# EAGLE library part LTC3300-1 (library balancers)
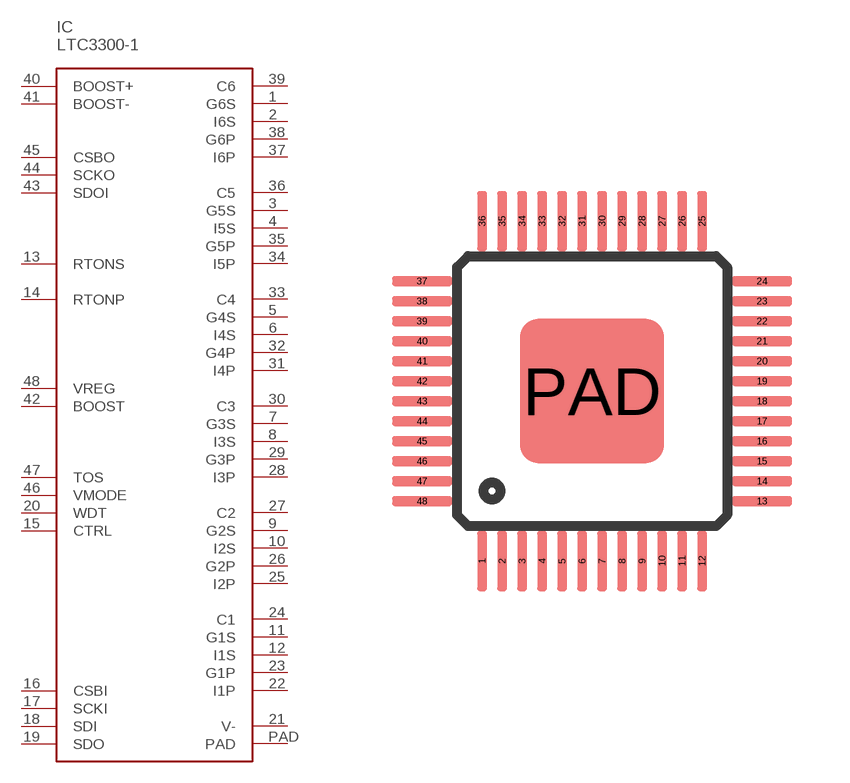
[diagram p0: symbol with the pads of LQFP48; footprint LQFP48]

Designator prefix IC

## LTC3300-1  [LQFP48]
1  G6S
2  I6S
3  G5S
4  I5S
5  G4S
6  I4S
7  G3S
8  I3S
9  G2S
10  I2S
11  G1S
12  I1S
13  RTONS
14  RTONP
15  CTRL
16  CSBI
17  SCKI
18  SDI
19  SDO
20  WDT
21  V-
22  I1P
23  G1P
24  C1
25  I2P
26  G2P
27  C2
28  I3P
29  G3P
30  C3
31  I4P
32  G4P
33  C4
34  I5P
35  G5P
36  C5
37  I6P
38  G6P
39  C6
40  BOOST+
41  BOOST-
42  BOOST
43  SDOI
44  SCKO
45  CSBO
46  VMODE
47  TOS
48  VREG
PAD  PAD

## Footprint LQFP48 (pad centres in mm)
48-pin plastic LQFP (FPT-48P-M26) www.fma.fujitsu.com/pdf/e713717.pdf
smd 0.25 x 1.5: 1 -2.75,-4.25; 2 -2.25,-4.25; 3 -1.75,-4.25; 4 -1.25,-4.25; 5 -0.75,-4.25; 6 -0.25,-4.25; 7 0.25,-4.25; 8 0.75,-4.25; 9 1.25,-4.25; 10 1.75,-4.25; 11 2.25,-4.25; 12 2.75,-4.25; 25 2.75,4.25; 26 2.25,4.25; 27 1.75,4.25; 28 1.25,4.25; 29 0.75,4.25; 30 0.25,4.25; 31 -0.25,4.25; 32 -0.75,4.25; 33 -1.25,4.25; 34 -1.75,4.25; 35 -2.25,4.25; 36 -2.75,4.25
smd 1.5 x 0.25: 13 4.25,-2.75; 14 4.25,-2.25; 15 4.25,-1.75; 16 4.25,-1.25; 17 4.25,-0.75; 18 4.25,-0.25; 19 4.25,0.25; 20 4.25,0.75; 21 4.25,1.25; 22 4.25,1.75; 23 4.25,2.25; 24 4.25,2.75; 37 -4.25,2.75; 38 -4.25,2.25; 39 -4.25,1.75; 40 -4.25,1.25; 41 -4.25,0.75; 42 -4.25,0.25; 43 -4.25,-0.25; 44 -4.25,-0.75; 45 -4.25,-1.25; 46 -4.25,-1.75; 47 -4.25,-2.25; 48 -4.25,-2.75
smd 3.6 x 3.6: PAD 0,0